# EAGLE library part MOSFET-PCHANNEL (library svBGC)
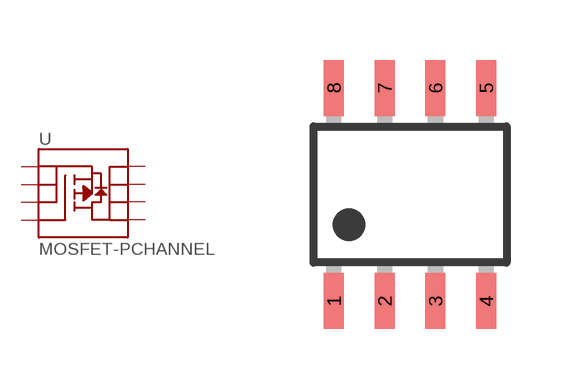
[diagram p5: symbol with the pads of SOIC-8; footprint SOIC-8]

Designator prefix -

## MOSFET-PCHANNEL-SOIC8  [SOIC-8]
1  S
2  S
3  S
4  G
5  D
6  D
7  D
8  D

## Footprint SOIC-8 (pad centres in mm)
SOIC-8 150 mil Package
smd 0.5 x 1.4: 1 -1.905,-2.667; 2 -0.635,-2.667; 3 0.635,-2.667; 4 1.905,-2.667; 5 1.905,2.667; 6 0.635,2.667; 7 -0.635,2.667; 8 -1.905,2.667